# Altium footprint library Giang_PCB_Libs.PcbLib: 9 footprints
Each footprint in its own frame and in the unit in brackets; x right, y up, seen from the top. Pads: shape width x height; smd on the part's side, far side on the other; paste and mask are expansions set on the pad; w line width, h text height; cw(c..) or ccw(c..) is an arc to the next point about the centre after c.
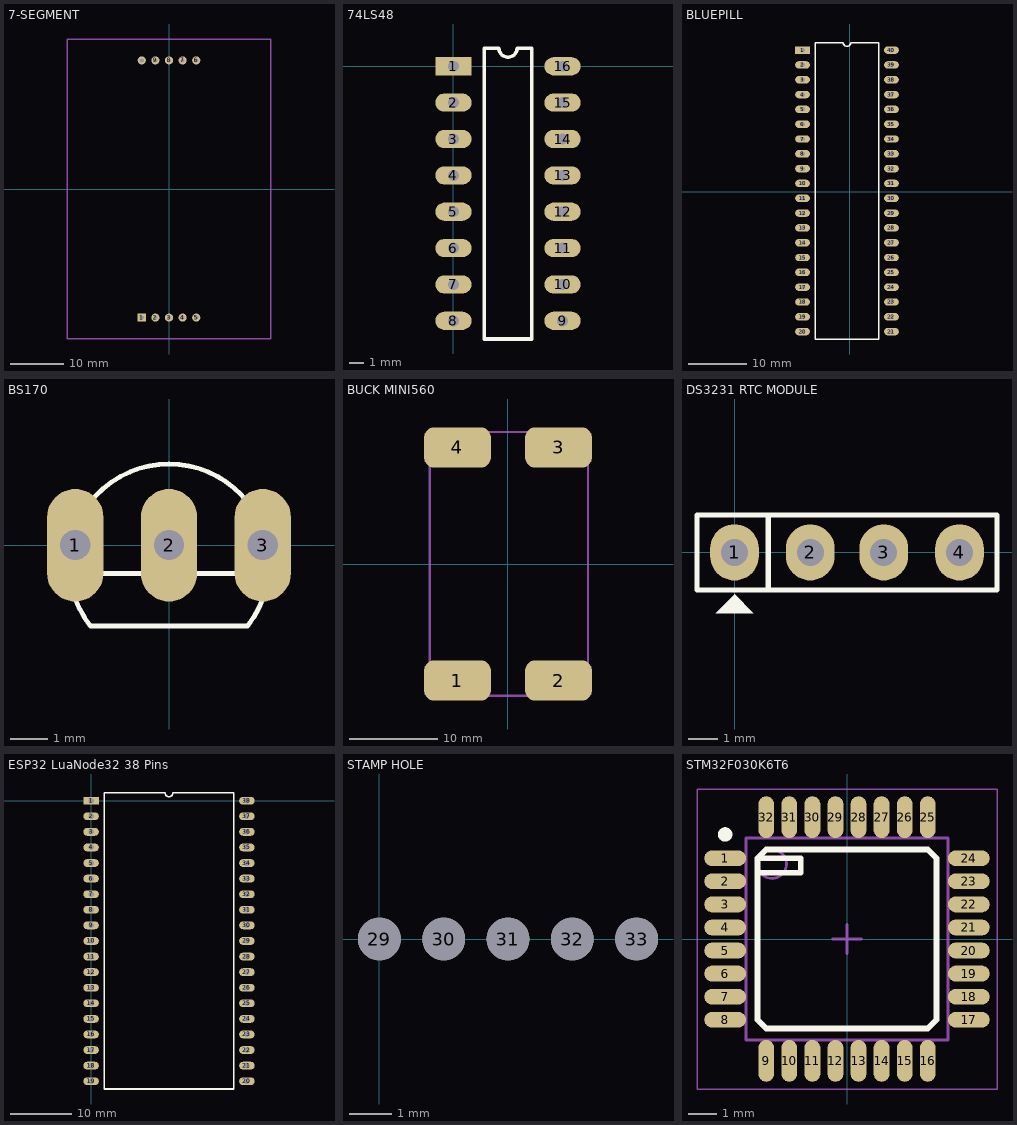
[diagram p0: the footprints below, top view; thin cyan lines are the x and y axes]

## 7-SEGMENT [mil]
pads (10):
  rect 60x60 hole 30: 1(-200,-944.88)
  round 60 hole 30: 2(-100,-944.88) 3(0,-944.88) 4(100,-944.88) 5(200,-944.88) 6(200,944.88) 7(100,944.88) 8(0,944.88) 9(-100,944.88) 10(-200,944.88)
Mechanical 1:
  lines w10: -748.03,-1102.36 -748.03,1102.36 ; -748,-1102.36 748.03,-1102.36 748.03,1102.36 -748,1102.36
3D body "Display 7 Segmentos.STEP": height 476.38, standoff 0, extent -748.03,-1102.36 748.03,1102.36

## 74LS48 [mil]
pads (16):
  rect 100x50 hole 30: 1(0,0)
  oval 100x50 hole 30: 2(0,-100) 3(0,-200) 4(0,-300) 5(0,-400) 6(0,-500) 7(0,-600) 8(0,-700) 9(300,-700) 10(300,-600) 11(300,-500) 12(300,-400) 13(300,-300) 14(300,-200) 15(300,-100) 16(300,0)
Top Overlay:
  lines w10: 85,-750 215,-750 215,50 175,50 cw(c150,50) 125,50 85,50 85,-750
3D body "74hc48.STEP": height 120, standoff -100.47, extent 6.36,-724.03 301.64,24

## BLUEPILL [mil] "Development board STM32F103C8T6"
height 59.06
pads (40):
  rect 100x50 hole 30: 1(-320,955)
  oval 100x50 hole 30: 2(-320,855) 3(-320,755) 4(-320,655) 5(-320,555) 6(-320,455) 7(-320,355) 8(-320,255) 9(-320,155) 10(-320,55) 11(-320,-45) 12(-320,-145) 13(-320,-245) 14(-320,-345) 15(-320,-445) 16(-320,-545) 17(-320,-645) 18(-320,-745) 19(-320,-845) 20(-320,-945) 21(280,-945) 22(280,-845) 23(280,-745) 24(280,-645) 25(280,-545) 26(280,-445) 27(280,-345) 28(280,-245) 29(280,-145) 30(280,-45) 31(280,55) 32(280,155) 33(280,255) 34(280,355) 35(280,455) 36(280,555) 37(280,655) 38(280,755) 39(280,855) 40(280,955)
Top Overlay:
  lines w10: -235,-995 -235,1005 -45,1005 ccw(c-20,1005) 5,1005 195,1005 195,-995 -235,-995
3D body "STM32F103C8T6_Blue_Pill v6.step": height 484.65, standoff -234.65, extent -470,-1178.07 430,1088.07

## BS170 [mm] "N-Channel Enhancement Mode Field Effect Transistor"
height 6
pads (3):
  oval 1.5x3 hole 0.8: 1(-2.5,0) 2(0,0) 3(2.5,0)
Top Overlay:
  lines w0.127: -2.655,-0.754 2.655,-0.754 ; -2.102,-2.142 cw(c0,-0.5) -2.657,-0.732 cw(c0,-0.5) -0.78,2.051 cw(c0,-0.5) 0.78,2.051 ; -2.094,-2.151 2.094,-2.151 ; 0.78,2.05 cw(c0,-0.5) 2.102,-2.142
3D body "BS170.STEP": height 7.74, standoff -1.66, extent -2.399,-1.533 2.399,2.4

## BUCK MINI560 [mm]
pads (4):
  rrect50% 7.62x4.572 smd: 1(-5.75,-13.25) 2(5.75,-13.25) 3(5.75,13.25) 4(-5.75,13.25)
Mechanical 1:
  lines w0.254: -8.9,-14.977 9.1,-14.977 9.1,15.023 -8.9,15.023 -8.9,-14.977
3D body "kicad_module_3D_MINI560.step": height 5.62, standoff 0, extent -8.9,-14.977 9.1,15.023

## DS3231 RTC MODULE [mil]
pads (4):
  oval 65x75 hole 36: 1(0,0) 2(101,0) 3(199,0) 4(300,0)
Top Overlay:
  region: 0,-56 -25,-81 25,-81
  lines w7: 45,-50 45,49 ; -50,-50 350,-50 350,50 -50,50 -50,-50
3D body "JP4.stp": height 323.44, standoff -117.51, extent -48.03,-48.43 348.03,50
3D body "DS3231 RTC.step": height 805.12, standoff 272.44, extent -298.82,-1712.81 598.82,49

## ESP32 LuaNode32 38 Pins [mil]
pads (38):
  rect 100x50 hole 35: 1(0,0)
  oval 100x50 hole 35: 2(0,-100) 3(0,-200) 4(0,-300) 5(0,-400) 6(0,-500) 7(0,-600) 8(0,-700) 9(0,-800) 10(0,-900) 11(0,-1000) 12(0,-1100) 13(0,-1200) 14(0,-1300) 15(0,-1400) 16(0,-1500) 17(0,-1600) 18(0,-1700) 19(0,-1800) 20(1000,-1800) 21(1000,-1700) 22(1000,-1600) 23(1000,-1500) 24(1000,-1400) 25(1000,-1300) 26(1000,-1200) 27(1000,-1100) 28(1000,-1000) 29(1000,-900) 30(1000,-800) 31(1000,-700) 32(1000,-600) 33(1000,-500) 34(1000,-400) 35(1000,-300) 36(1000,-200) 37(1000,-100) 38(1000,0)
Top Overlay:
  lines w10: 85,-1850 915,-1850 915,50 525,50 cw(c500,50) 475,50 85,50 85,-1850

## STAMP HOLE [mm]
pads (5):
  round 1 hole 1 mask+0.102: 29(0,0) 30(1.5,0) 31(3,0) 32(4.5,0) 33(6,0)

## STM32F030K6T6 [mm] "ARM Cortex M0 Microcontroller IC 32-Bit 48MHz 32KB FLASH, 32-LQFP"
height 1.6
pads (32):
  oval 1.45x0.55 smd: 1(-4.225,2.8) 2(-4.225,2) 3(-4.225,1.2) 4(-4.225,0.4) 5(-4.225,-0.4) 6(-4.225,-1.2) 7(-4.225,-2) 8(-4.225,-2.8) 17(4.225,-2.8) 18(4.225,-2) 19(4.225,-1.2) 20(4.225,-0.4) 21(4.225,0.4) 22(4.225,1.2) 23(4.225,2) 24(4.225,2.8)
  oval 0.55x1.45 smd: 9(-2.8,-4.225) 10(-2,-4.225) 11(-1.2,-4.225) 12(-0.4,-4.225) 13(0.4,-4.225) 14(1.2,-4.225) 15(2,-4.225) 16(2.8,-4.225) 25(2.8,4.225) 26(2,4.225) 27(1.2,4.225) 28(0.4,4.225) 29(-0.4,4.225) 30(-1.2,4.225) 31(-2,4.225) 32(-2.8,4.225)
Top Overlay:
  circle w0.25: c-4.225,3.625 r0.125
  lines w0.2: -3.1,2.3 -1.6,2.3 -1.6,2.8 -3.1,2.8 ; -3.1,2.8 -2.8,3.1 2.8,3.1 3.1,2.8 3.1,-2.8 2.8,-3.1 -2.8,-3.1 -3.1,-2.8 -3.1,2.8
Mechanical 13:
  circle w0.1: c-2.6,2.6 r0.5
  lines w0.1: -3.5,-3.5 3.5,-3.5 3.5,3.5 -3.5,3.5 -3.5,-3.5
Mechanical 15:
  lines w0.05: -5.2,-5.2 5.2,-5.2 5.2,5.2 -5.2,5.2 -5.2,-5.2
  lines w0.1: -0.5,0 0.5,0 ; 0,-0.5 0,0.5
3D body "STM32F030K6T6.step": height 1.55, standoff 0, extent -4.6,-4.6 4.6,4.6